# EAGLE library part MCP4726A0T-E_CH (library MCP4726A0T-E_CH)
12-bit DAC, NV, 1-channel, I2C, SOT23-6 Microchip MCP4726A0T-E/CH, 12 bit Serial DAC, 6-Pin SOT-23 Source: Datasheet <https://datasheet.datasheetarchive.com/originals/distributors/Datasheets-DGA17/911550.pdf>
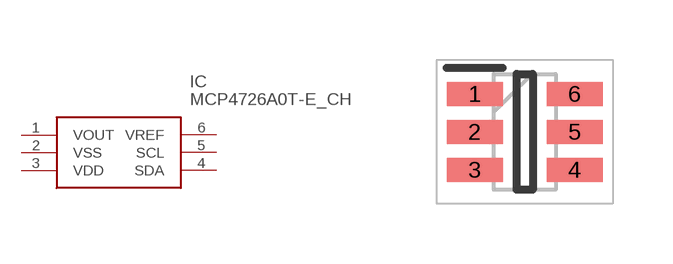
[diagram p0: symbol with the pads of SOT95P270X145-6N; footprint SOT95P270X145-6N]

Designator prefix IC

## MCP4726A0T-E_CH (Description: 12-bit DAC, NV, 1-channel, I2C, SOT23-6 Microchip MCP4726A0T-E/CH, 12 bit Serial DAC, 6-Pin SOT-23; Height: 1.45mm; Manufacturer_Name: Microchip; Manufacturer_Part_Number: MCP4726A0T-E/CH; Mouser_Part_Number: 579-MCP4726A0TECH; Mouser_Price-Stock: https://www.mouser.co.uk/ProductDetail/Microchip-Technology/MCP4726A0T-E-CH?qs=ggQiQSXuoRUfw4Repi%252B5rQ%3D%3D)  [SOT95P270X145-6N]
1  VOUT
2  VSS
3  VDD
4  SDA
5  SCL
6  VREF

## Footprint SOT95P270X145-6N (pad centres in mm)
6-LEAD SOT-23-6
smd 1.4 x 0.6: 1 -1.25,0.95; 2 -1.25,0; 3 -1.25,-0.95; 4 1.25,-0.95; 5 1.25,0; 6 1.25,0.95